# Altium footprint library Jumper.PcbLib: 17 footprints (part 1 of 2)
Each footprint in its own frame and in the unit in brackets; x right, y up, seen from the top. Pads: shape width x height; smd on the part's side, far side on the other; paste and mask are expansions set on the pad; w line width, h text height; cw(c..) or ccw(c..) is an arc to the next point about the centre after c.
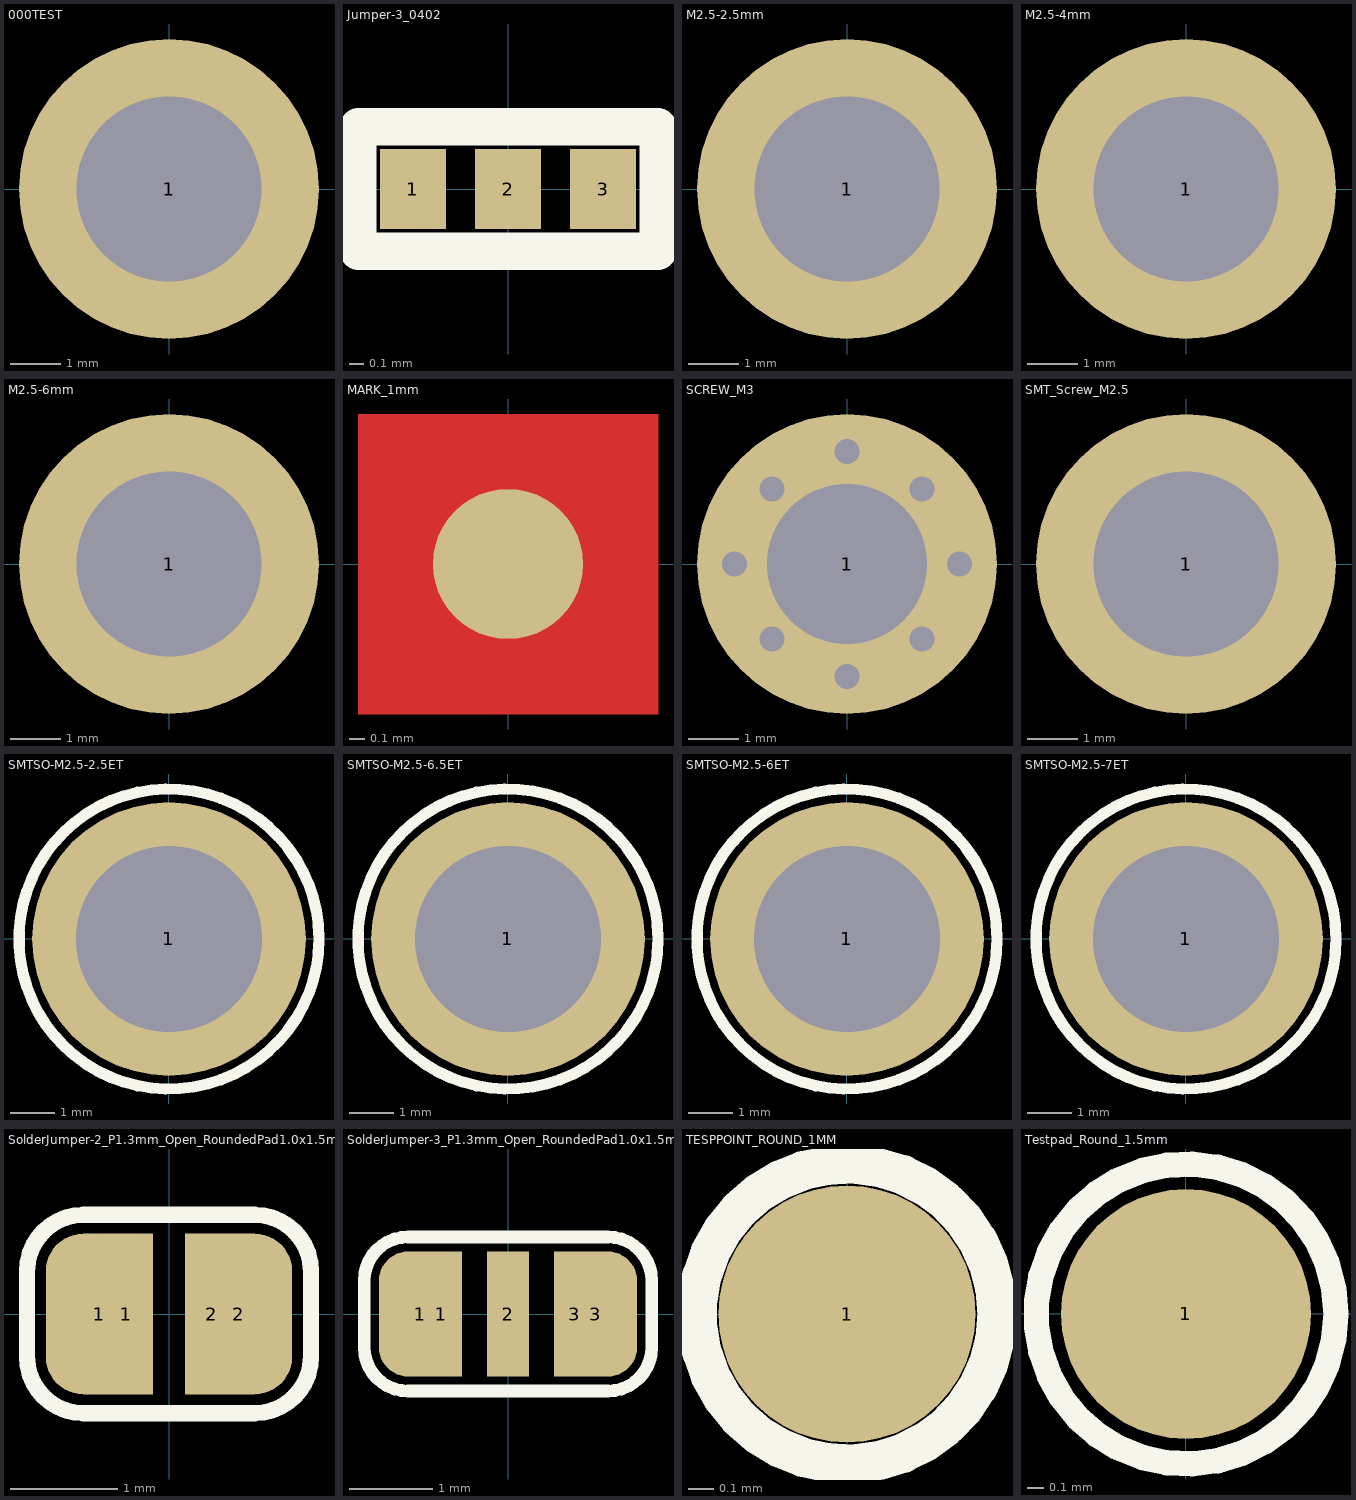
[diagram p0: the footprints below, top view; thin cyan lines are the x and y axes]

## 000TEST [mm]
pads (1):
  round 6 hole 3.7 paste-100: 1(0,0)
Top Paste:
  region: 0.261,-2.938 0.518,-2.916 1.015,-2.782 1.482,-2.564 1.904,-2.268 2.268,-1.904 2.564,-1.482 2.782,-1.015 2.916,-0.518 2.938,-0.261 2.939,-0.261 1.882,-0.261 1.855,-0.413 1.764,-0.706 1.627,-0.981 1.448,-1.231 1.231,-1.448 0.981,-1.627 0.706,-1.764 0.413,-1.855 0.261,-1.882
  region: -0.261,-2.938 -0.518,-2.916 -1.015,-2.782 -1.482,-2.564 -1.904,-2.268 -2.268,-1.904 -2.564,-1.482 -2.782,-1.015 -2.916,-0.518 -2.938,-0.261 -2.939,-0.261 -1.882,-0.261 -1.855,-0.413 -1.764,-0.706 -1.627,-0.981 -1.448,-1.231 -1.231,-1.448 -0.981,-1.627 -0.706,-1.764 -0.413,-1.855 -0.261,-1.882
  region: -0.261,2.938 -0.518,2.916 -1.015,2.782 -1.482,2.564 -1.904,2.268 -2.268,1.904 -2.564,1.482 -2.782,1.015 -2.916,0.518 -2.938,0.261 -2.939,0.261 -1.882,0.261 -1.855,0.413 -1.764,0.706 -1.627,0.981 -1.448,1.231 -1.231,1.448 -0.981,1.627 -0.706,1.764 -0.413,1.855 -0.261,1.882
  region: 0.261,2.938 0.518,2.916 1.015,2.782 1.482,2.564 1.904,2.268 2.268,1.904 2.564,1.482 2.782,1.015 2.916,0.518 2.938,0.261 2.939,0.261 1.882,0.261 1.855,0.413 1.764,0.706 1.627,0.981 1.448,1.231 1.231,1.448 0.981,1.627 0.706,1.764 0.413,1.855 0.261,1.882
  lines w0.025: -2.938,-0.261 ccw(c0,0) -0.261,-2.938 -0.261,-1.882 cw(c0,0) -1.882,-0.261 -2.939,-0.261 ; -2.938,0.261 cw(c0,0) -0.261,2.938 -0.261,1.882 ccw(c0,0) -1.882,0.261 -2.939,0.261 ; 0.261,-2.938 ccw(c0,0) 2.938,-0.261 1.882,-0.261 cw(c0,0) 0.261,-1.882 0.261,-2.939 ; 0.261,1.882 cw(c0,0) 1.882,0.261 2.939,0.261 ccw(c0,0) 0.261,2.938 0.261,1.882

## Jumper-3_0402 [mm]
pads (3):
  rect 0.45x0.55 smd: 1(-0.65,0) 2(0,0) 3(0.65,0)
Top Overlay:
  lines w0.254: -1.025,-0.425 -1.025,0.425 1.025,0.425 1.025,-0.425 -1.025,-0.425

## M2.5-2.5mm [mm] "SMT Steel Spacer, M2.5 Thread Internal, 6mm"
height 6
pads (1):
  round 6 / inner round 0 / far side round 0 hole 3.7 paste-403.566: 1(0,0)
Top Paste:
  drawing of 4 lines, arcs and shapes, not listed
Mechanical 13:
  circle w0.12: c0,0 r2.55
3D body "M2_5x2_5.stp": height 2.5, standoff -1.4, extent -2.55,-2.6 2.55,2.5

## M2.5-4mm [mm] "SMT Steel Spacer, M2.5 Thread Internal, 4mm"
height 6
pads (1):
  round 6 / inner round 0 / far side round 0 hole 3.7 paste-403.566: 1(0,0)
Top Paste:
  drawing of 4 lines, arcs and shapes, not listed
Mechanical 13:
  circle w0.12: c0,0 r2.55
3D body "9774040151.stp": height 4, standoff -1.4, extent -2.55,-2.545 2.53,2.545

## M2.5-6mm [mm] "SMT Steel Spacer, M2.5 Thread Internal, 6mm"
height 6
pads (1):
  round 6 / inner round 0 / far side round 0 hole 3.7 paste-403.566: 1(0,0)
Top Paste:
  drawing of 4 lines, arcs and shapes, not listed
Mechanical 13:
  circle w0.12: c0,0 r2.55
3D body "9774060151.stp": height 6, standoff -1.4, extent -2.55,-2.545 2.53,2.545

## MARK_1mm [mm]
pads (1):
  round 1 smd mask+0.5: ""(0,0)
Top Layer:
  pour cut-out: -1,-1 1,-1 1,1 -1,1

## SCREW_M3 [mm]
pads (1):
  round 6 hole 3.2: 1(0,0)
via -1.5,-1.5 diameter 0.8 hole 0.5
via 1.5,-1.5 diameter 0.8 hole 0.5
via 1.5,1.5 diameter 0.8 hole 0.5
via -1.5,1.5 diameter 0.8 hole 0.5
via -2.25,0 diameter 0.8 hole 0.5
via 0,-2.25 diameter 0.8 hole 0.5
via 0,2.25 diameter 0.8 hole 0.5
via 2.25,0 diameter 0.8 hole 0.5

## SMT_Screw_M2.5 [mm]
pads (1):
  round 6 hole 3.7: 1(0,0)

## SMTSO-M2.5-2.5ET [mm] "SMTSO-M2.5-2.5ET"
pads (1):
  round 6.2 hole 4.22 paste-1: 1(0,0)
Top Overlay:
  circle w0.254: c0,0 r3.4
Top Paste:
  region: -3.038,-0.266 -3.015,-0.532 -2.877,-1.047 -2.651,-1.531 -2.345,-1.968 -1.968,-2.345 -1.531,-2.651 -1.047,-2.877 -0.532,-3.015 -0.266,-3.038 -0.266,-2.144 -0.442,-2.114 -0.784,-2.013 -1.105,-1.856 -1.396,-1.648 -1.648,-1.396 -1.856,-1.105 -2.012,-0.785 -2.114,-0.442 -2.144,-0.266
  region: 0.266,-3.038 0.532,-3.015 1.047,-2.877 1.531,-2.651 1.968,-2.345 2.345,-1.968 2.651,-1.531 2.877,-1.047 3.015,-0.532 3.038,-0.266 2.144,-0.266 2.114,-0.442 2.013,-0.784 1.856,-1.105 1.648,-1.396 1.396,-1.648 1.105,-1.856 0.785,-2.012 0.442,-2.114 0.266,-2.144
  region: -0.266,3.038 -0.532,3.015 -1.047,2.877 -1.531,2.651 -1.968,2.345 -2.345,1.968 -2.651,1.531 -2.877,1.047 -3.015,0.532 -3.038,0.266 -2.144,0.266 -2.114,0.442 -2.013,0.784 -1.856,1.105 -1.648,1.396 -1.396,1.648 -1.105,1.856 -0.785,2.012 -0.442,2.114 -0.266,2.144
  region: 0.266,3.038 0.532,3.015 1.047,2.877 1.531,2.651 1.968,2.345 2.345,1.968 2.651,1.531 2.877,1.047 3.015,0.532 3.038,0.266 2.144,0.266 2.114,0.442 2.013,0.784 1.856,1.105 1.648,1.396 1.396,1.648 1.105,1.856 0.785,2.012 0.442,2.114 0.266,2.144
  lines w0.025: -2.144,-0.266 ccw(c0,0) -0.266,-2.144 -0.266,-3.038 cw(c0,0) -3.038,-0.266 -2.144,-0.266 ; -0.266,2.144 ccw(c0,0) -2.144,0.266 -3.038,0.266 cw(c0,0) -0.266,3.038 -0.266,2.144 ; 0.266,-2.144 0.266,-3.038 ccw(c0,0) 3.038,-0.266 2.144,-0.266 cw(c0,0) 0.266,-2.144 ; 0.266,2.144 0.266,3.038 cw(c0,0) 3.038,0.266 2.144,0.266 ccw(c0,0) 0.266,2.144
3D body: height 2.5, standoff 0, extent -2.78,-2.777 2.78,2.777

## SMTSO-M2.5-6.5ET [mm] "SMTSO-M2.5-6.5ET"
pads (1):
  round 6.2 hole 4.22 paste-1: 1(0,0)
Top Overlay:
  circle w0.254: c0,0 r3.4
Top Paste:
  region: 0.266,3.038 0.532,3.015 1.047,2.877 1.531,2.651 1.968,2.345 2.345,1.968 2.651,1.531 2.877,1.047 3.015,0.532 3.038,0.266 2.144,0.266 2.114,0.442 2.013,0.784 1.856,1.105 1.648,1.396 1.396,1.648 1.105,1.856 0.785,2.012 0.442,2.114 0.266,2.144
  region: -0.266,3.038 -0.532,3.015 -1.047,2.877 -1.531,2.651 -1.968,2.345 -2.345,1.968 -2.651,1.531 -2.877,1.047 -3.015,0.532 -3.038,0.266 -2.144,0.266 -2.114,0.442 -2.013,0.784 -1.856,1.105 -1.648,1.396 -1.396,1.648 -1.105,1.856 -0.785,2.012 -0.442,2.114 -0.266,2.144
  region: 0.266,-3.038 0.532,-3.015 1.047,-2.877 1.531,-2.651 1.968,-2.345 2.345,-1.968 2.651,-1.531 2.877,-1.047 3.015,-0.532 3.038,-0.266 2.144,-0.266 2.114,-0.442 2.013,-0.784 1.856,-1.105 1.648,-1.396 1.396,-1.648 1.105,-1.856 0.785,-2.012 0.442,-2.114 0.266,-2.144
  region: -3.038,-0.266 -3.015,-0.532 -2.877,-1.047 -2.651,-1.531 -2.345,-1.968 -1.968,-2.345 -1.531,-2.651 -1.047,-2.877 -0.532,-3.015 -0.266,-3.038 -0.266,-2.144 -0.442,-2.114 -0.784,-2.013 -1.105,-1.856 -1.396,-1.648 -1.648,-1.396 -1.856,-1.105 -2.012,-0.785 -2.114,-0.442 -2.144,-0.266
  lines w0.025: -2.144,-0.266 ccw(c0,0) -0.266,-2.144 -0.266,-3.038 cw(c0,0) -3.038,-0.266 -2.144,-0.266 ; -0.266,2.144 ccw(c0,0) -2.144,0.266 -3.038,0.266 cw(c0,0) -0.266,3.038 -0.266,2.144 ; 0.266,-2.144 0.266,-3.038 ccw(c0,0) 3.038,-0.266 2.144,-0.266 cw(c0,0) 0.266,-2.144 ; 0.266,2.144 0.266,3.038 cw(c0,0) 3.038,0.266 2.144,0.266 ccw(c0,0) 0.266,2.144
3D body: height 6.5, standoff 0, extent -2.78,-2.777 2.78,2.777

## SMTSO-M2.5-6ET [mm] "SMTSO-M2.5-6ET"
pads (1):
  round 6.2 hole 4.22 paste-1: 1(0,0)
Top Overlay:
  circle w0.254: c0,0 r3.4
Top Paste:
  region: -3.038,-0.266 -3.015,-0.532 -2.877,-1.047 -2.651,-1.531 -2.345,-1.968 -1.968,-2.345 -1.531,-2.651 -1.047,-2.877 -0.532,-3.015 -0.266,-3.038 -0.266,-2.144 -0.442,-2.114 -0.784,-2.013 -1.105,-1.856 -1.396,-1.648 -1.648,-1.396 -1.856,-1.105 -2.012,-0.785 -2.114,-0.442 -2.144,-0.266
  region: 0.266,-3.038 0.532,-3.015 1.047,-2.877 1.531,-2.651 1.968,-2.345 2.345,-1.968 2.651,-1.531 2.877,-1.047 3.015,-0.532 3.038,-0.266 2.144,-0.266 2.114,-0.442 2.013,-0.784 1.856,-1.105 1.648,-1.396 1.396,-1.648 1.105,-1.856 0.785,-2.012 0.442,-2.114 0.266,-2.144
  region: -0.266,3.038 -0.532,3.015 -1.047,2.877 -1.531,2.651 -1.968,2.345 -2.345,1.968 -2.651,1.531 -2.877,1.047 -3.015,0.532 -3.038,0.266 -2.144,0.266 -2.114,0.442 -2.013,0.784 -1.856,1.105 -1.648,1.396 -1.396,1.648 -1.105,1.856 -0.785,2.012 -0.442,2.114 -0.266,2.144
  region: 0.266,3.038 0.532,3.015 1.047,2.877 1.531,2.651 1.968,2.345 2.345,1.968 2.651,1.531 2.877,1.047 3.015,0.532 3.038,0.266 2.144,0.266 2.114,0.442 2.013,0.784 1.856,1.105 1.648,1.396 1.396,1.648 1.105,1.856 0.785,2.012 0.442,2.114 0.266,2.144
  lines w0.025: -2.144,-0.266 ccw(c0,0) -0.266,-2.144 -0.266,-3.038 cw(c0,0) -3.038,-0.266 -2.144,-0.266 ; -0.266,2.144 ccw(c0,0) -2.144,0.266 -3.038,0.266 cw(c0,0) -0.266,3.038 -0.266,2.144 ; 0.266,-2.144 0.266,-3.038 ccw(c0,0) 3.038,-0.266 2.144,-0.266 cw(c0,0) 0.266,-2.144 ; 0.266,2.144 0.266,3.038 cw(c0,0) 3.038,0.266 2.144,0.266 ccw(c0,0) 0.266,2.144
3D body: height 6, standoff 0, extent -2.78,-2.777 2.78,2.777

## SMTSO-M2.5-7ET [mm] "SMTSO-M2.5-7ET"
pads (1):
  round 6.2 hole 4.22 paste-1: 1(0,0)
Top Overlay:
  circle w0.254: c0,0 r3.4
Top Paste:
  region: 0.266,3.038 0.532,3.015 1.047,2.877 1.531,2.651 1.968,2.345 2.345,1.968 2.651,1.531 2.877,1.047 3.015,0.532 3.038,0.266 2.144,0.266 2.114,0.442 2.013,0.784 1.856,1.105 1.648,1.396 1.396,1.648 1.105,1.856 0.785,2.012 0.442,2.114 0.266,2.144
  region: -0.266,3.038 -0.532,3.015 -1.047,2.877 -1.531,2.651 -1.968,2.345 -2.345,1.968 -2.651,1.531 -2.877,1.047 -3.015,0.532 -3.038,0.266 -2.144,0.266 -2.114,0.442 -2.013,0.784 -1.856,1.105 -1.648,1.396 -1.396,1.648 -1.105,1.856 -0.785,2.012 -0.442,2.114 -0.266,2.144
  region: 0.266,-3.038 0.532,-3.015 1.047,-2.877 1.531,-2.651 1.968,-2.345 2.345,-1.968 2.651,-1.531 2.877,-1.047 3.015,-0.532 3.038,-0.266 2.144,-0.266 2.114,-0.442 2.013,-0.784 1.856,-1.105 1.648,-1.396 1.396,-1.648 1.105,-1.856 0.785,-2.012 0.442,-2.114 0.266,-2.144
  region: -3.038,-0.266 -3.015,-0.532 -2.877,-1.047 -2.651,-1.531 -2.345,-1.968 -1.968,-2.345 -1.531,-2.651 -1.047,-2.877 -0.532,-3.015 -0.266,-3.038 -0.266,-2.144 -0.442,-2.114 -0.784,-2.013 -1.105,-1.856 -1.396,-1.648 -1.648,-1.396 -1.856,-1.105 -2.012,-0.785 -2.114,-0.442 -2.144,-0.266
  lines w0.025: -2.144,-0.266 ccw(c0,0) -0.266,-2.144 -0.266,-3.038 cw(c0,0) -3.038,-0.266 -2.144,-0.266 ; -0.266,2.144 ccw(c0,0) -2.144,0.266 -3.038,0.266 cw(c0,0) -0.266,3.038 -0.266,2.144 ; 0.266,-2.144 0.266,-3.038 ccw(c0,0) 3.038,-0.266 2.144,-0.266 cw(c0,0) 0.266,-2.144 ; 0.266,2.144 0.266,3.038 cw(c0,0) 3.038,0.266 2.144,0.266 ccw(c0,0) 0.266,2.144
3D body: height 7, standoff 0, extent -2.78,-2.777 2.78,2.777

## SolderJumper-2_P1.3mm_Open_RoundedPad1.0x1.5mm [mm]
pads (4):
  rrect70% 1x1.5 smd: 1(-0.65,0) 2(0.65,0)
  rect 0.5x1.5 smd: 1(-0.4,0) 2(0.4,0)
Top Overlay:
  lines w0.152: -1.325,-0.025 -1.325,0.4 cw(c-0.8,0.4) -0.8,0.925 0,0.925 0.8,0.925 cw(c0.8,0.4) 1.325,0.4 1.325,-0.025 ; -1.325,0.025 -1.325,-0.4 ccw(c-0.8,-0.4) -0.8,-0.925 0,-0.925 0.8,-0.925 ccw(c0.8,-0.4) 1.325,-0.4 1.325,0.025

## SolderJumper-3_P1.3mm_Open_RoundedPad1.0x1.5mm [mm]
pads (5):
  rrect70% 1x1.5 smd: 1(-1.05,0) 3(1.05,0)
  rect 0.5x1.5 smd: 1(-0.8,0) 2(0,0) 3(0.8,0)
Top Overlay:
  lines w0.152: -1.725,-0.025 -1.725,0.4 cw(c-1.2,0.4) -1.2,0.925 -0.4,0.925 1.2,0.925 cw(c1.2,0.4) 1.725,0.4 1.725,-0.025 ; -1.725,0.025 -1.725,-0.4 ccw(c-1.2,-0.4) -1.2,-0.925 -0.4,-0.925 1.2,-0.925 ccw(c1.2,-0.4) 1.725,-0.4 1.725,0.025

## TESPPOINT_ROUND_1MM [mm]
pads (1):
  round 1 smd: 1(0,0)
Top Overlay:
  circle w0.152: c0,0 r0.583

## Testpad_Round_1.5mm [mm]
pads (1):
  round 1.5 smd paste-0.75: 1(0,0)
Top Overlay:
  circle w0.152: c0,0 r0.9